# Altium schematic symbol library FOC-PMSM.SCHLIB: 21 symbols
Pins are listed as number, name and electrical type; pins without a type are passive.

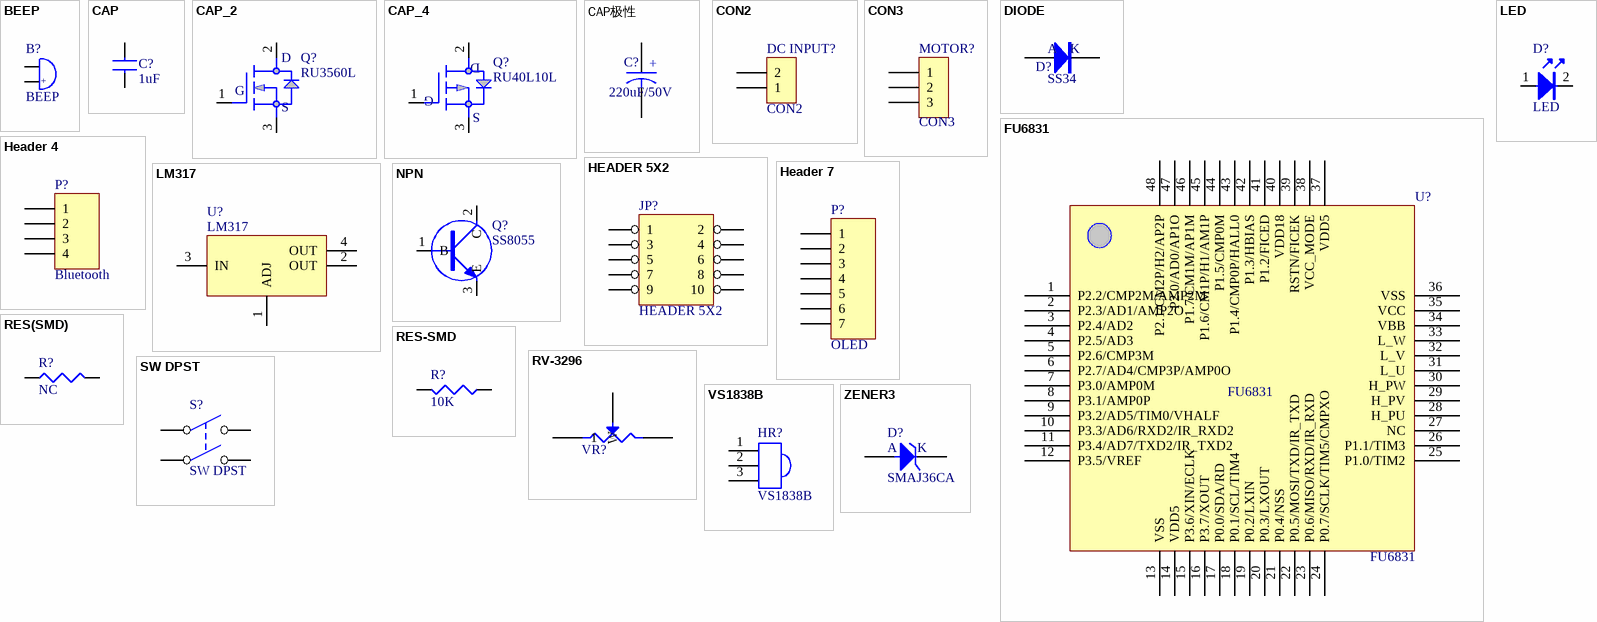
[diagram p0: symbols BEEP to ZENER3]

## BEEP
designator B?
蜂鸣器
footprint BEEP 6.5x12x6 (6.5*12*6mm(脚距,直径,高度))
footprint BEEP 7.6x12x9.5
footprint BEEP 6.5x12x8.5 (6.5*12*8.5mm(脚距,直径,高度))
footprint BEEP 7.6X12X7.5 (6.5*12*7.5mm(脚距,直径,高度))
footprint BEEP 7.6X12X9.5 (6.5*12*9.5mm(脚距,直径,高度))
pins: 1, 2
text: +

## CAP
designator C?, comment 1uF
Capacitor
footprint C1206
footprint C0805
footprint C0603
footprint C-3
pins: 1, 2
2 alternate drawings of the same symbol

## CAP_2
designator Q?, comment RU3560L
Text Field1: 50; Text Field2: 40
footprint TO-252-3L
pins: 1 G, 2 D, 3 S
2 alternate drawings of the same symbol

## CAP_4
designator Q?, comment RU40L10L
Text Field1: 50; Text Field2: 40
footprint TO-252-3L
pins: 1 G, 2 D, 3 S
2 alternate drawings of the same symbol

## CAP极性
designator C?, comment 220uF/50V
Capacitor
footprint CE2.54/6.5/13
footprint CE5-10/16
pins: 1, 2
2 alternate drawings of the same symbol
text: +

## CON2
designator DC INPUT?
Connector
footprint SIP1*2/5
footprint DIP-1*2/7.9
footprint 250-2P
pins: 1, 2
2 alternate drawings of the same symbol

## CON3
designator MOTOR?
Connector
footprint SIP1*3-2.54
footprint SIP1*3/2
footprint 250-3P
pins: 1, 2, 3
2 alternate drawings of the same symbol

## DIODE
designator D?, comment SS34
Diode
footprint D0603
footprint SOD-123
footprint SMA
footprint SOD-323
footprint SMB
pins: 1, 2 K
2 alternate drawings of the same symbol
text: A

## FU6831
designator U?
footprint LQFP48
pins: 1 P2.2/CMP2M/AMP2M, 2 P2.3/AD1/AMP2O, 3 P2.4/AD2, 4 P2.5/AD3, 5 P2.6/CMP3M, 6 P2.7/AD4/CMP3P/AMP0O, 7 P3.0/AMP0M, 8 P3.1/AMP0P, 9 P3.2/AD5/TIM0/VHALF, 10 P3.3/AD6/RXD2/IR_RXD2, 11 P3.4/AD7/TXD2/IR_TXD2, 12 P3.5/VREF, 13 VSS, 14 VDD5, 15 P3.6/XIN/ECLK, 16 P3.7/XOUT, 17 P0.0/SDA/RD, 18 P0.1/SCL/TIM4, 19 P0.2/LXIN, 20 P0.3/LXOUT, 21 P0.4/NSS, 22 P0.5/MOSI/TXD/IR_TXD, 23 P0.6/MISO/RXD/IR_RXD, 24 P0.7/SCLK/TIM5/CMPXO, 25 P1.0/TIM2, 26 P1.1/TIM3, 27 NC, 28 H_PU, 29 H_PV, 30 H_PW, 31 L_U, 32 L_V, 33 L_W, 34 VBB, 35 VCC, 36 VSS, 37 VDD5, 38 VCC_MODE, 39 RSTN/FICEK, 40 VDD18, 41 P1.2/FICED, 42 P1.3/HBIAS, 43 P1.4/CMP0P/HALL0, 44 P1.5/CMP0M, 45 P1.6/CM1P/H1/AM1P, 46 P1.7/CM1M/AP1M, 47 P2.0/AD0/AP1O, 48 P2.1/CM2P/H2/AP2P
2 alternate drawings of the same symbol

## Header 4
designator P?, comment Bluetooth
Header, 4-Pin; LatestRevisionDate: 17-Jul-2002; LatestRevisionNote: Re-released for DXP Platform.; Publisher: Altium Limited
signal-integrity model Connector
footprint HDR1X4 (Connector; Header; 4 Position)
pins: 1, 2, 3, 4

## HEADER 5X2
designator JP?
footprint DC3-14P 2*7  2.54
pins: 1, 2, 3, 4, 5, 6, 7, 8, 9, 10
2 alternate drawings of the same symbol

## Header 7
designator P?, comment OLED
Header, 7-Pin; LatestRevisionDate: 17-Jul-2002; LatestRevisionNote: Re-released for DXP Platform.; Publisher: Altium Limited
footprint HDR1X7 (Connector; Header; 7 Position)
signal-integrity model Connector
pins: 1, 2, 3, 4, 5, 6, 7

## LED
designator D?
footprint LED0805
footprint LED-2/2.5
footprint LED0805
pins: 1, 2
2 alternate drawings of the same symbol

## LM317
designator U?
footprint SOT-223
pins: 1 ADJ, 2 OUT, 3 IN, 4 OUT
2 alternate drawings of the same symbol

## NPN
designator Q?, comment SS8055
NPN Transistor
footprint SOT-23
pins: 1 B, 2 C, 3 E
2 alternate drawings of the same symbol

## RES(SMD)
designator R?, comment NC
footprint 0603
footprint 0805
footprint 1206
footprint 2512
footprint R0805
pins: 1, 2
2 alternate drawings of the same symbol

## RES-SMD
designator R?, comment 10K
RES
footprint R1206
footprint R0805
footprint R0603
footprint AXIAL0.4
pins: 1, 2
2 alternate drawings of the same symbol

## RV-3296
designator VR?
Potentiometer
footprint VR6
footprint R-3266W-104
pins: 1, 3, W
2 alternate drawings of the same symbol

## SW DPST
designator S?
footprint SW-6/6
pins: 1 COMMON1, 1 COMMON2, 2 NO1, 2 NO2
2 alternate drawings of the same symbol

## VS1838B
designator HR?
红外接收头
footprint VS1838B-B_H
footprint VS1838B-B (一体红外接收头)
footprint VS1838B-B_H (卧式一体红外接收头)
footprint VS1838B-A_H (卧式一体红外接收头)
pins: 1 A "Anode", 2 K "Cathode", 3 E "Emitter"

## ZENER3
designator D?, comment SMAJ36CA
Zener Diode
footprint SMA
footprint SOT-23
pins: 1 A, 2 K
2 alternate drawings of the same symbol